# EAGLE library part PH_2X10 (library PP_Connectors)
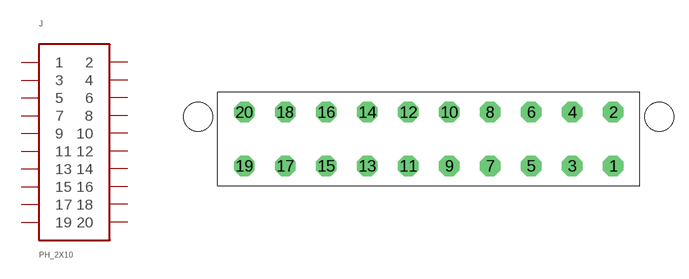
[diagram p6: symbol with the pads of MOLEX_39-29-9202; footprint MOLEX_39-29-9202]

Designator prefix J

## PH_2X10MOLEX_39-29-9202  [MOLEX_39-29-9202]
1  1
2  2
3  3
4  4
5  5
6  6
7  7
8  8
9  9
10  10
11  11
12  12
13  13
14  14
15  15
16  16
17  17
18  18
19  19
20  20

## Footprint MOLEX_39-29-9202 (pad centres in mm)
drill 1.4 octagon: 1 18.9,-2.75; 2 18.9,2.75; 3 14.7,-2.75; 4 14.7,2.75; 5 10.5,-2.75; 6 10.5,2.75; 7 6.3,-2.75; 8 6.3,2.75; 9 2.1,-2.75; 10 2.1,2.75; 11 -2.1,-2.75; 12 -2.1,2.75; 13 -6.3,-2.75; 14 -6.3,2.75; 15 -10.5,-2.75; 16 -10.5,2.75; 17 -14.7,-2.75; 18 -14.7,2.75; 19 -18.9,-2.75; 20 -18.9,2.75
hole 3 at -23.6,2.29
hole 3 at 23.6,2.29